# Altium footprint library 24 Pin 100 mil Vertical Header - Through Hole.PcbLib: 1 footprints
Each footprint in its own frame and in the unit in brackets; x right, y up, seen from the top. Pads: shape width x height; smd on the part's side, far side on the other; paste and mask are expansions set on the pad; w line width, h text height; cw(c..) or ccw(c..) is an arc to the next point about the centre after c.
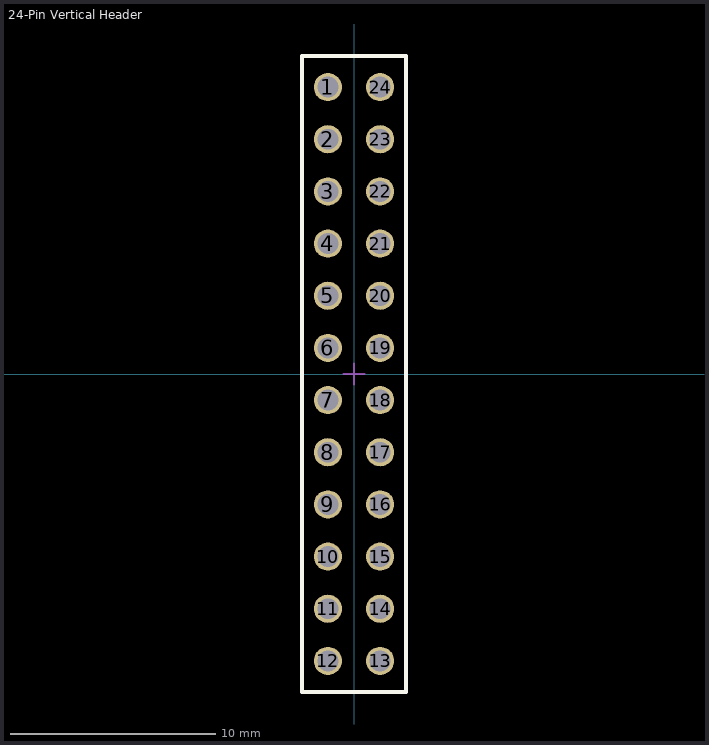
[diagram p0: the footprint, top view; thin cyan lines are the x and y axes]

## 24-Pin Vertical Header [mil]
pads (24):
  round 54 hole 40: 1(-50,550) 2(-50,450) 3(-50,350) 4(-50,250) 5(-50,150) 6(-50,50) 7(-50,-50) 8(-50,-150) 9(-50,-250) 10(-50,-350) 11(-50,-450) 12(-50,-550) 13(50,-550) 14(50,-450) 15(50,-350) 16(50,-250) 17(50,-150) 18(50,-50) 19(50,50) 20(50,150) 21(50,250) 22(50,350) 23(50,450) 24(50,550)
Top Overlay:
  lines w7.87: -100,-610 -100,610 100,610 100,-610 -100,-610
Mechanical 15:
  lines w3.94: -19.69,0 19.68,0 ; 0,-19.68 0,19.68
3D body "_ _ _C122LFBN-RC.STEP": height 337.96, standoff -122.67, extent -100,-610 100,609.69